# Altium footprint library Glove.PcbLib: 13 footprints
Each footprint in its own frame and in the unit in brackets; x right, y up, seen from the top. Pads: shape width x height; smd on the part's side, far side on the other; paste and mask are expansions set on the pad; w line width, h text height; cw(c..) or ccw(c..) is an arc to the next point about the centre after c.
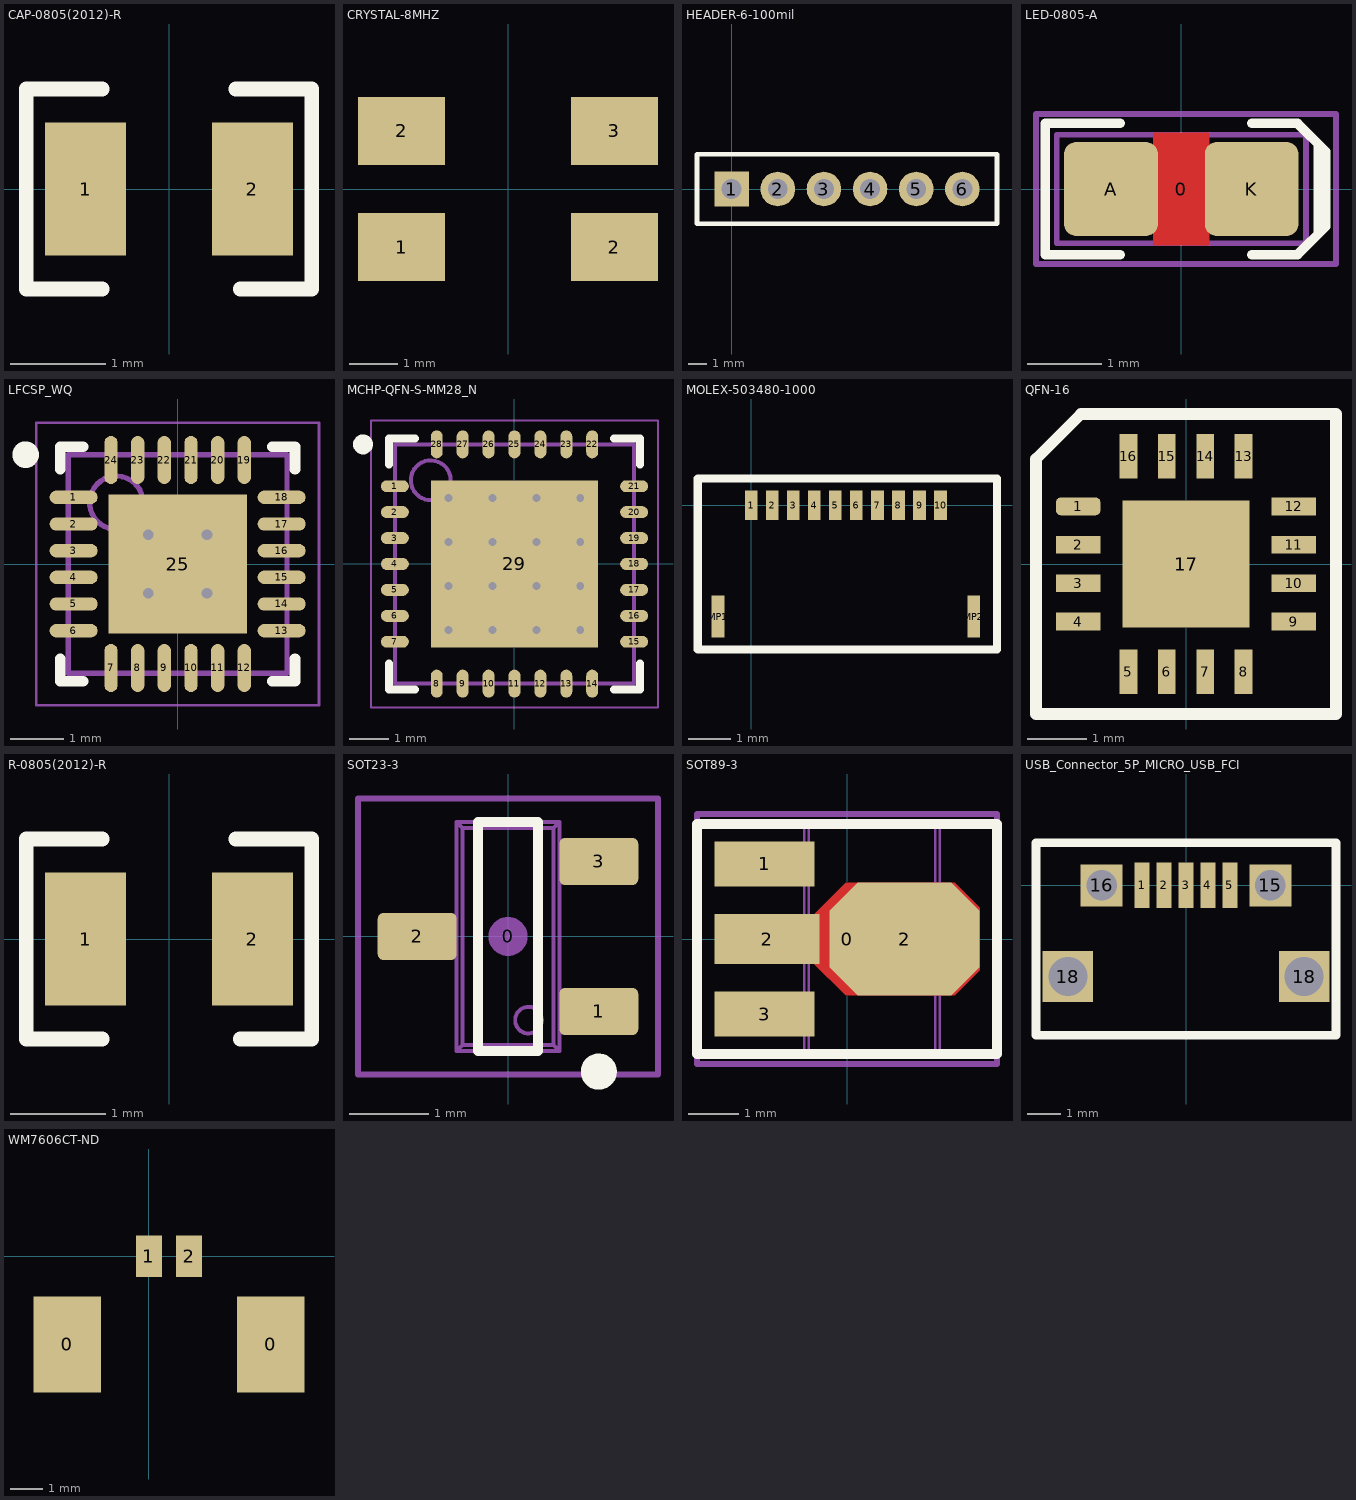
[diagram p0: the footprints below, top view; thin cyan lines are the x and y axes]

## CAP-0805(2012)-R [mm] "Capacitor 0805(2012) Reflow"
pads (2):
  rect 0.85x1.4 smd: 1(-0.875,0) 2(0.875,0)
Top Overlay:
  lines w0.152: -0.7,-1.05 -1.5,-1.05 -1.5,1.05 -0.7,1.05 ; 0.7,1.05 1.5,1.05 1.5,-1.05 0.75,-1.05
3D body "CAP0805.stp": height 0.78, standoff 0, extent -1,-0.625 1,0.625

## CRYSTAL-8MHZ [mm] "ABRACON ABMM2-8.000MHZ-E2-T"
pads (4):
  rect 1.8x1.4 smd: 1(-2.2,-1.2) 2(-2.2,1.2) 2(2.2,-1.2) 3(2.2,1.2)
3D body "ABMM2.STEP": height 1.21, standoff 0, extent -3,-1.778 3,1.822

## HEADER-6-100mil [mil] "100 mil spacing"
pads (6):
  rect 75x75 hole 43: 1(0,0)
  round 75 hole 43: 2(100,0) 3(200,0) 4(300,0) 5(400,0) 6(500,0)
Top Overlay:
  lines w10: -75,-75 575,-75 575,75 -75,75 -75,-75
3D body "4-103327-6.stp": height 338.58, standoff -118.11, extent -50,-50 550,50

## LED-0805-A [mil]
height 31.5
pads (3):
  round 20 on Mech14: 0(0,0)
  rrect25% 50x50 smd: A(-37.5,0) K(37.5,0)
Top Layer:
  pour cut-out: -15,30 15,30 15,-30 -15,-30
Top Overlay:
  lines w5: -32.5,-35 -72.5,-35 -72.5,35 -32.5,35 ; 37.5,-35 62,-35 77,-20 77,20 62,35 37.5,35 ; 73,-24 73,24
Mechanical 13:
  lines w3: -66.5,-29 66.5,-29 66.5,29 -66.5,29 -66.5,-29
Mechanical 14:
  lines w3: -77.5,-40 82.5,-40 82.5,40 -77.5,40 -77.5,-40
3D body: height 31.5, standoff 11.81, extent -26.49,-24.61 28.65,24.6
3D body: height 11.81, standoff 3.94, extent -39.37,-24.61 39.37,24.61
3D body: height 3.94, standoff 0, extent -39.37,-24.61 39.37,24.61
3D body: height 3.94, standoff 0, extent -11.81,-15.75 11.81,15.75

## LFCSP_WQ [mm] "QFN, 24-Leads, Body 4x4mm, Pitch 0.5mm, Thermal Pad 2.5x2.5mm, IPC Medium Density"
height 1
pads (25):
  oval 0.9x0.25 smd: 1(-1.95,1.25) 2(-1.95,0.75) 3(-1.95,0.25) 4(-1.95,-0.25) 5(-1.95,-0.75) 6(-1.95,-1.25) 13(1.95,-1.25) 14(1.95,-0.75) 15(1.95,-0.25) 16(1.95,0.25) 17(1.95,0.75) 18(1.95,1.25)
  oval 0.25x0.9 smd: 7(-1.25,-1.95) 8(-0.75,-1.95) 9(-0.25,-1.95) 10(0.25,-1.95) 11(0.75,-1.95) 12(1.25,-1.95) 19(1.25,1.95) 20(0.75,1.95) 21(0.25,1.95) 22(-0.25,1.95) 23(-0.75,1.95) 24(-1.25,1.95)
  rect 2.6x2.6 smd: 25(0,0)
via 0.55,-0.55 diameter 0.5 hole 0.2
via -0.55,-0.55 diameter 0.5 hole 0.2
via 0.55,0.55 diameter 0.5 hole 0.2
via -0.55,0.55 diameter 0.5 hole 0.2
Top Overlay:
  circle w0.25: c-2.85,2.05 r0.125
  lines w0.2: -2.2,-1.775 -2.2,-2.2 -1.775,-2.2 ; -2.2,1.775 -2.2,2.2 -1.775,2.2 ; 1.775,-2.2 2.2,-2.2 2.2,-1.775 ; 1.775,2.2 2.2,2.2 2.2,1.775
Mechanical 13:
  circle w0.1: c-1.15,1.15 r0.5
  lines w0.1: -2.05,-2.05 2.05,-2.05 2.05,2.05 -2.05,2.05 -2.05,-2.05
Mechanical 15:
  lines w0.05: -2.65,-2.65 2.65,-2.65 2.65,2.65 -2.65,2.65 -2.65,-2.65
  lines w0.1: -0.5,0 0.5,0 ; 0,-0.5 0,0.5
3D body: height 1, standoff 0, extent -2.05,-2.05 2.05,2.05

## MCHP-QFN-S-MM28_N [mm] "QFN, 28-Leads, Body 6x6mm, Pitch 0.65mm, Thermal Pad 4.175x4.175mm, IPC Medium Density"
height 1
pads (29):
  oval 0.7x0.3 smd: 1(-3,1.95) 2(-3,1.3) 3(-3,0.65) 4(-3,0) 5(-3,-0.65) 6(-3,-1.3) 7(-3,-1.95) 15(3,-1.95) 16(3,-1.3) 17(3,-0.65) 18(3,0) 19(3,0.65) 20(3,1.3) 21(3,1.95)
  oval 0.3x0.7 smd: 8(-1.95,-3) 9(-1.3,-3) 10(-0.65,-3) 11(0,-3) 12(0.65,-3) 13(1.3,-3) 14(1.95,-3) 22(1.95,3) 23(1.3,3) 24(0.65,3) 25(0,3) 26(-0.65,3) 27(-1.3,3) 28(-1.95,3)
  rect 4.18x4.18 smd: 29(0,0)
via 1.65,-1.65 diameter 0.5 hole 0.2
via 0.55,-1.65 diameter 0.5 hole 0.2
via -0.55,-1.65 diameter 0.5 hole 0.2
via -1.65,-1.65 diameter 0.5 hole 0.2
via 1.65,-0.55 diameter 0.5 hole 0.2
via 0.55,-0.55 diameter 0.5 hole 0.2
via -0.55,-0.55 diameter 0.5 hole 0.2
via -1.65,-0.55 diameter 0.5 hole 0.2
via 1.65,0.55 diameter 0.5 hole 0.2
via 0.55,0.55 diameter 0.5 hole 0.2
via -0.55,0.55 diameter 0.5 hole 0.2
via -1.65,0.55 diameter 0.5 hole 0.2
via 1.65,1.65 diameter 0.5 hole 0.2
via 0.55,1.65 diameter 0.5 hole 0.2
via -0.55,1.65 diameter 0.5 hole 0.2
via -1.65,1.65 diameter 0.5 hole 0.2
Top Overlay:
  circle w0.25: c-3.8,3 r0.125
  lines w0.2: -3.15,-2.5 -3.15,-3.15 -2.5,-3.15 ; -3.15,2.5 -3.15,3.15 -2.5,3.15 ; 2.5,-3.15 3.15,-3.15 3.15,-2.5 ; 2.5,3.15 3.15,3.15 3.15,2.5
Mechanical 13:
  circle w0.1: c-2.1,2.1 r0.5
  lines w0.1: -3,-3 3,-3 3,3 -3,3 -3,-3
Mechanical 15:
  lines w0.05: -3.6,-3.6 3.6,-3.6 3.6,3.6 -3.6,3.6 -3.6,-3.6
  lines w0.1: -0.5,0 0.5,0 ; 0,-0.5 0,0.5
3D body: height 1, standoff 0, extent -3,-3 3,3

## MOLEX-503480-1000 [mm] "FPC Connector, 10-Leads, Right Angle, Pitch 0.5 mm, Mated Height 1.0 mm, SMT"
height 1.907
pads (12):
  rect 0.3x0.7 smd: 1(0,0) 2(0.5,0) 3(1,0) 4(1.5,0) 5(2,0) 6(2.5,0) 7(3,0) 8(3.5,0) 9(4,0) 10(4.5,0)
  rect 0.3x1 smd: MP1(-0.79,-2.65) MP2(5.29,-2.65)
Top Overlay:
  lines w0.2: -1.27,-3.429 5.842,-3.429 5.842,0.635 -1.27,0.635 -1.27,-3.429
3D body "5034801000.stp": height 1.88, standoff -0.02, extent -1.143,-3.324 5.557,0.276

## QFN-16 [mm]
pads (17):
  rrect50% 0.75x0.3 smd: 1(-1.825,0.975)
  rect 0.75x0.3 smd: 2(-1.825,0.325) 3(-1.825,-0.325) 4(-1.825,-0.975) 9(1.825,-0.975) 10(1.825,-0.325) 11(1.825,0.325) 12(1.825,0.975)
  rect 0.3x0.75 smd: 5(-0.975,-1.825) 6(-0.325,-1.825) 7(0.325,-1.825) 8(0.975,-1.825) 13(0.975,1.825) 14(0.325,1.825) 15(-0.325,1.825) 16(-0.975,1.825)
  rect 2.15x2.15 smd: 17(0,0)
Top Overlay:
  lines w0.2: -2.54,-2.54 -2.54,1.778 -1.778,2.54 2.54,2.54 2.54,-2.54 -2.54,-2.54
3D body "QFN_16.STEP": height 0.92, standoff 0, extent -2,-2 2,2

## R-0805(2012)-R [mm] "Resistor 0805(2012) Reflow"
pads (2):
  rect 0.85x1.4 smd: 1(-0.875,0) 2(0.875,0)
Top Overlay:
  lines w0.152: -0.7,-1.05 -1.5,-1.05 -1.5,1.05 -0.7,1.05 ; 0.7,1.05 1.5,1.05 1.5,-1.05 0.75,-1.05
3D body "RES0805.stp": height 0.5, standoff 0, extent -1,-0.625 1,0.625

## SOT23-3 [mm] "SOT23, 3 pin"
height 1.003
pads (4):
  round 0.5 on Mech14: 0(0,0)
  rrect25% 1x0.6 smd: 1(1.15,-0.95) 2(-1.15,0) 3(1.15,0.95)
Top Overlay:
  circle w0.254: c1.15,-1.712 r0.102
  lines w0.127: -0.381,-1.45 -0.381,1.45 0.381,1.45 0.381,-1.45 -0.381,-1.45
Mechanical 13:
  circle w0.05: c0.26,-1.06 r0.169
  lines w0.05: -1.19,-0.24 -1.19,0.24 ; -1.099,-0.24 -1.099,0.24 ; -1.074,-0.24 -1.074,0.24 ; -0.825,-0.24 -0.825,0.24 ; -0.65,-0.24 -1.4,-0.24 -1.4,0.24 -0.65,0.24 ; 0.65,-1.19 1.4,-1.19 1.4,-0.71 0.65,-0.71 ; 0.65,0.71 1.4,0.71 1.4,1.19 0.65,1.19 ; 0.825,-1.19 0.825,-0.71 ; 0.825,0.71 0.825,1.19 ; 1.074,-1.19 1.074,-0.71 ; 1.074,0.71 1.074,1.19 ; 1.099,-1.19 1.099,-0.71 ; 1.099,0.71 1.099,1.19 ; 1.19,-1.19 1.19,-0.71 ; 1.19,0.71 1.19,1.19 ; -0.65,-1.45 -0.65,1.45 ; -0.65,-1.45 -0.576,-1.376 ; -0.65,-1.45 0.65,-1.45 ; -0.65,1.45 0.65,1.45 ; -0.65,1.45 -0.576,1.376 ; -0.576,-1.376 -0.576,1.376 ; -0.576,-1.376 0.576,-1.376 ; -0.576,1.376 0.576,1.376 ; 0.576,-1.376 0.65,-1.45 ; 0.576,-1.376 0.576,1.376 ; 0.576,1.376 0.65,1.45 ; 0.65,-1.45 0.65,1.45
Mechanical 14:
  lines w0.076: -1.9,-1.75 1.9,-1.75 1.9,1.75 -1.9,1.75 -1.9,-1.75
3D body "SOT23-3.STEP": height 1.29, standoff -0.01, extent -1.4,-1.45 1.4,1.45

## SOT89-3 [mm] "JEDEC TO-243 option AA / SOT89"
height 1.7
pads (5):
  round 1 on Mech14: 0(0,0)
  rrect1% 2x0.9 smd: 1(-1.65,1.5) 3(-1.65,-1.5)
  rrect1% 2.1x1 smd: 2(-1.6,0)
  oct 3x2.25 smd: 2(1.15,0)
Top Layer:
  region: -0.7,-0.45 -0.025,-1.125 2.15,-1.125 2.65,-0.625 2.65,0.625 2.15,1.125 -0.025,1.125 -0.7,0.45
Top Overlay:
  lines w0.2: -3,-2.3 3,-2.3 3,2.3 -3,2.3 -3,-2.3
Mechanical 13:
  lines w0.05: -0.85,-1.76 -0.85,-2.35 ; -0.85,-1.24 -0.85,-0.3 ; -0.85,0.3 -0.85,1.24 ; -0.85,1.76 -0.85,2.35 ; 1.85,-0.925 1.85,-2.35 ; 1.85,0.925 1.85,2.35 ; -0.85,-2.35 -0.761,-2.261 ; -0.85,-2.35 1.85,-2.35 ; -0.85,2.35 -0.761,2.261 ; -0.85,2.35 1.85,2.35 ; -0.761,-2.261 -0.761,2.261 ; -0.761,-2.261 1.761,-2.261 ; -0.761,2.261 1.761,2.261 ; 1.761,-2.261 1.85,-2.35 ; 1.761,-2.261 1.761,2.261 ; 1.761,2.261 1.85,2.35 ; -2.25,-1.76 -0.824,-1.76 -0.824,-1.24 -2.25,-1.24 -2.25,-1.76 ; -2.25,-0.3 -2.25,0.3 -0.824,0.3 -0.824,-0.3 -2.25,-0.3 ; -2.25,1.24 -0.824,1.24 -0.824,1.76 -2.25,1.76 -2.25,1.24 ; 1.824,-0.925 1.824,0.925 1.9,0.925 2.2,0.625 2.2,-0.625 1.9,-0.925 1.824,-0.925
Mechanical 14:
  lines w0.127: -3,-2.5 3,-2.5 3,2.5 -3,2.5 -3,-2.5
3D body "SOT89-3.STEP": height 1.69, standoff 0, extent -2.25,-2.35 2.2,2.35

## USB_Connector_5P_MICRO_USB_FCI [mm] "USB_Connector_5P_MICRO_USB_FCI_TypeB"
pads (9):
  rect 0.45x1.35 smd: 1(-1.3,0) 2(-0.65,0) 3(0,0) 4(0.65,0) 5(1.3,0)
  rect 1.25x1.25 hole 0.9: 15(2.5,0) 16(-2.5,0)
  rect 1.5x1.5 hole 1.15: 18(-3.5,-2.7) 18(3.5,-2.7)
Top Overlay:
  lines w0.254: -4.445,-4.445 4.445,-4.445 4.445,1.27 -4.445,1.27 -4.445,-4.445
3D body "UsbMicro-10118194.step": height 2.73, standoff -0.55, extent -4.025,-5.334 4.025,0.246

## WM7606CT-ND [mm]
pads (4):
  rect 2.1x3 smd: 0(-2.55,-2.75) 0(3.8,-2.75)
  rect 0.8x1.3 smd: 1(0,0) 2(1.25,0)
3D body "533980271.stp": height 4.72, standoff -0.02, extent -3.19,-3.759 4.46,0.441